# Altium schematic symbol library Arduino.SchLib: 4 symbols
Pins are listed as number, name and electrical type; pins without a type are passive.

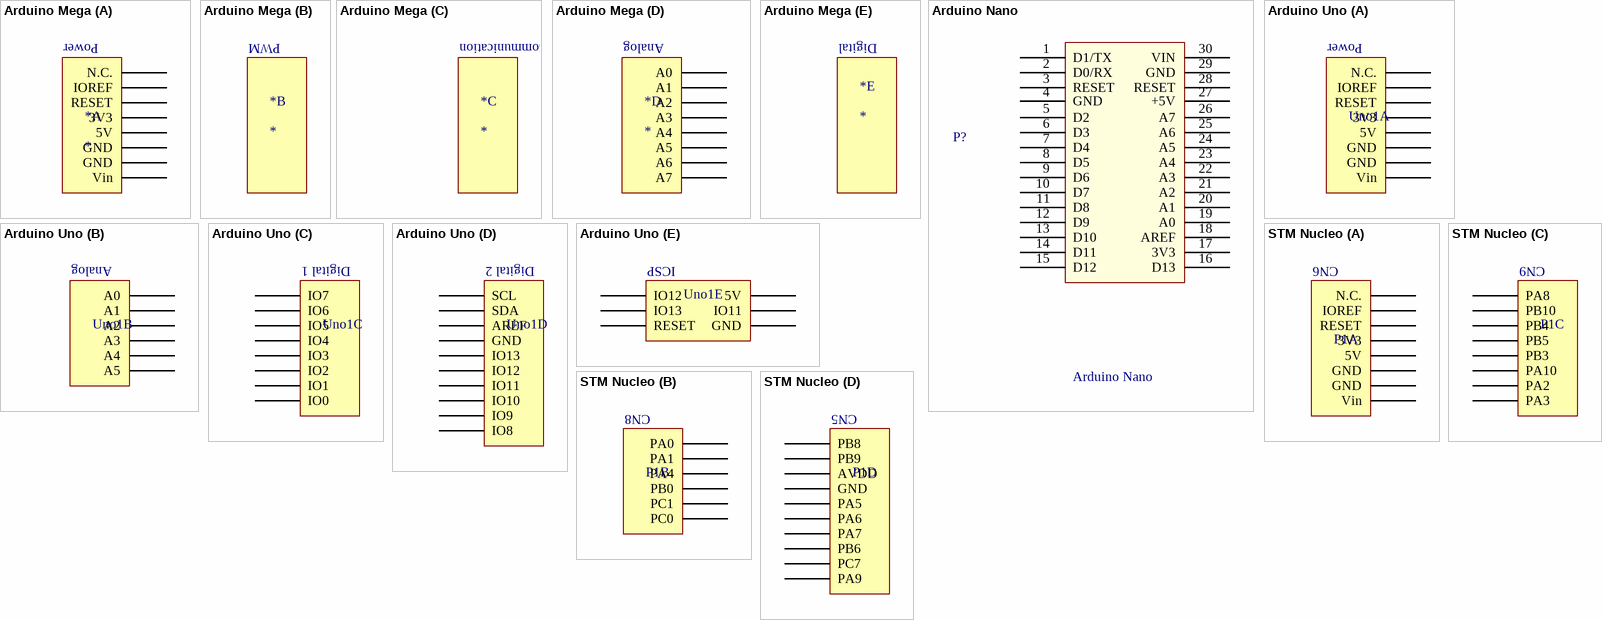
[diagram p0: symbols Arduino Mega to STM Nucleo]

## Arduino Mega
designator *
footprint Arduino Mega
part A pins: 3V3, 5V, GND1 GND, GND2 GND, IOREF, NC N.C., RESET, Vin
part D pins: A0, A1, A2, A3, A4, A5, A6, A7
part A text: Power
part B text: PWM
part C text: Communication
part D text: Analog
part E text: Digital

## Arduino Nano
designator P?
pins: 1 D1/TX, 2 D0/RX, 3 RESET, 4 GND, 5 D2, 6 D3, 7 D4, 8 D5, 9 D6, 10 D7, 11 D8, 12 D9, 13 D10, 14 D11, 15 D12, 16 D13, 17 3V3, 18 AREF, 19 A0, 20 A1, 21 A2, 22 A3, 23 A4, 24 A5, 25 A6, 26 A7, 27 +5V, 28 RESET, 29 GND, 30 VIN

## Arduino Uno
designator Uno1  (value not drawn)
footprint Arduino Uno Adapter
part A pins: 3V3, 5V, GND1 GND, GND2 GND, IOREF, NC N.C., RESET, Vin
part B pins: A0, A1, A2, A3, A4, A5
part C pins: 0 IO0, 1 IO1, 2 IO2, 3 IO3, 4 IO4, 5 IO5, 6 IO6, 7 IO7
part D pins: 8 IO8, 9 IO9, 10 IO10, 11 IO11, 12 IO12, 13 IO13, AREF, GND3 GND, SCL, SDA
part E pins: ICSP1 IO12, ICSP2 5V, ICSP3 IO13, ICSP4 IO11, ICSP5 RESET, ICSP6 GND
part A text: Power
part B text: Analog
part C text: Digital 1
part D text: Digital 2
part E text: ICSP

## STM Nucleo
designator P1  (value not drawn)
footprint Arduino Uno Shield
part A pins: 3V3, 5V, GND1 GND, GND2 GND, IOREF, NC N.C., RESET, Vin
part B pins: A0 PA0, A1 PA1, A2 PA4, A3 PB0, A4 PC1, A5 PC0
part C pins: 0 PA3, 1 PA2, 2 PA10, 3 PB3, 4 PB5, 5 PB4, 6 PB10, 7 PA8
part D pins: 8 PA9, 9 PC7, 10 PB6, 11 PA7, 12 PA6, 13 PA5, AREF AVDD, GND3 GND, SCL PB8, SDA PB9
part A text: CN6
part B text: CN8
part C text: CN9
part D text: CN5